# Altium schematic symbol library GraphicalLib.SchLib: 1 symbol
Pins are listed as number, name and electrical type; pins without a type are passive.

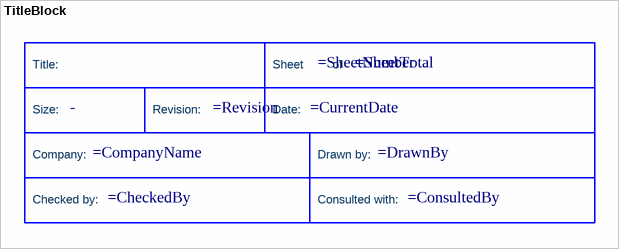
[diagram p0: symbol TitleBlock]

## TitleBlock
designator *  (value not drawn)  (graphical)
Standard Title Block; Size: -
text: Title:; Sheet; of; Size:; Revision:; Date:; Company:; Drawn by:; Checked by:; Consulted with: